# Altium integrated library Intersil Operational Amplifier.IntLib: 32 symbols
Pins are listed as number, name and electrical type; pins without a type are passive.

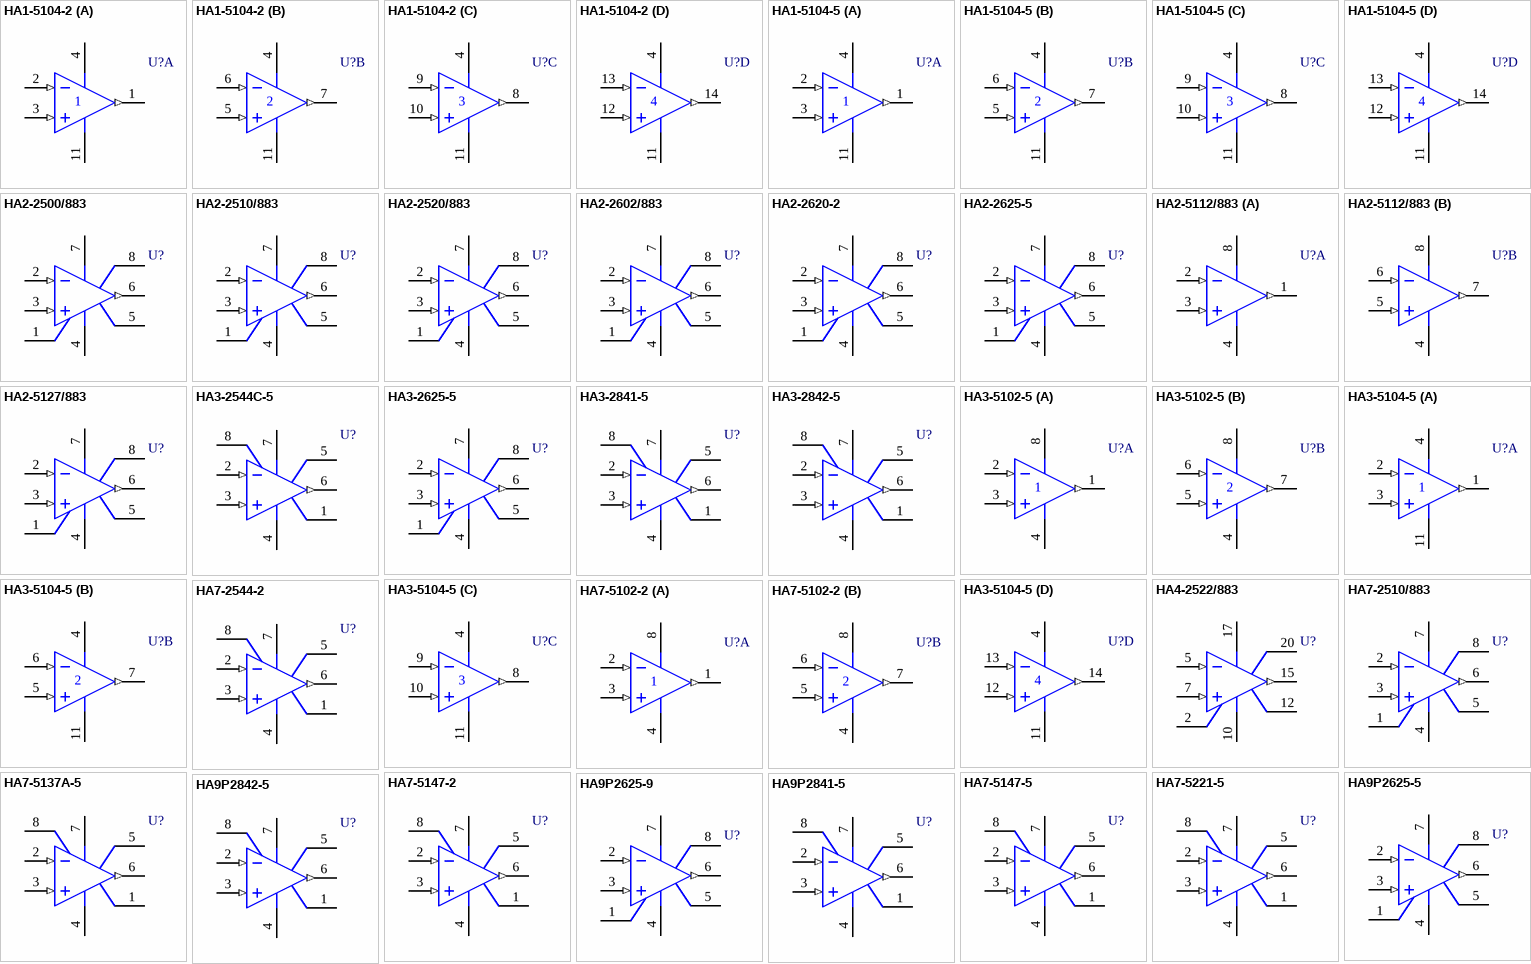
[diagram p0: symbols HA1-5104-2 to HA9P2842-5]

## HA1-5104-2
designator U?
Low Noise Operational Amplifier; Published: 23-Sep-2002; LatestRevisionDate: 29-May-2009; LatestRevisionNote: Component Body Added.; DatasheetVersion: May-2001; PackageVersion: rev0, Apr-1994; PackageReference: F14.3; Publisher: Altium Limited; PackageDescription: DIP, Ceramic, Frit Seal, 14-Pin, Row Spacing 7.62 mm, Pitch 2.54 mm; ComponentLink1Description: Manufacturer Link; ComponentLink1URL: http://www.intersil.com/cda/home/; ComponentLink2Description: Datasheet; ComponentLink2URL: http://www.intersil.com/data/fn/fn2925.pdf
footprint F14.3 (DIP, 14-Leads, Row Spacing 7.62mm, Pitch 2.54mm, Body 19.56x6.73mm)
3D model F14_3 (DIP, Ceramic, Frit Seal, 14-Pin, Row Spacing 7.62 mm, Pitch 2.54 mm)
simulation model HA5102 (SUBCKT)
pins on every part: 4 V+ (power), 11 V- (power)
part A pins: 1 OUT (out), 2 IN- (in), 3 IN+ (in)
part B pins: 5 IN+ (in), 6 IN- (in), 7 OUT (out)
part C pins: 8 OUT (out), 9 IN- (in), 10 IN+ (in)
part D pins: 12 IN+ (in), 13 IN- (in), 14 OUT (out)

## HA1-5104-5
designator U?
Low Noise Operational Amplifier; Published: 23-Sep-2002; LatestRevisionDate: 29-May-2009; LatestRevisionNote: Component Body Added.; DatasheetVersion: May-2001; PackageVersion: rev0, Apr-1994; PackageReference: F14.3; Publisher: Altium Limited; PackageDescription: DIP, Ceramic, Frit Seal, 14-Pin, Row Spacing 7.62 mm, Pitch 2.54 mm; ComponentLink1Description: Manufacturer Link; ComponentLink1URL: http://www.intersil.com/cda/home/; ComponentLink2Description: Datasheet; ComponentLink2URL: http://www.intersil.com/data/fn/fn2925.pdf
footprint F14.3 (DIP, 14-Leads, Row Spacing 7.62mm, Pitch 2.54mm, Body 19.56x6.73mm)
3D model F14_3 (DIP, Ceramic, Frit Seal, 14-Pin, Row Spacing 7.62 mm, Pitch 2.54 mm)
simulation model HA5102 (SUBCKT)
pins on every part: 4 V+ (power), 11 V- (power)
part A pins: 1 OUT (out), 2 IN- (in), 3 IN+ (in)
part B pins: 5 IN+ (in), 6 IN- (in), 7 OUT (out)
part C pins: 8 OUT (out), 9 IN- (in), 10 IN+ (in)
part D pins: 12 IN+ (in), 13 IN- (in), 14 OUT (out)

## HA2-2500/883
designator U?
Precision High Slew Rate Operational Amplifier; Published: 23-Sep-2002; DatasheetVersion: Apr-2002; PackageVersion: rev0, May-1994; PackageReference: T8.C; Publisher: Altium Limited; PackageDescription: Can; 8 Leads; Pin Circle Dia. 5.08 mm; Lead Dia. 0.53 mm (max); ComponentLink1Description: Manufacturer Link; ComponentLink1URL: http://www.intersil.com/cda/home/
footprint T8.C (Can; 8 Leads; Pin Circle Dia. 5.08 mm; Lead Dia. 0.53 mm (max))
simulation model HA2500 (SUBCKT)
pins: 1 BAL, 2 IN- (in), 3 IN+ (in), 4 V- (power), 5 BAL, 6 OUT (out), 7 V+ (power), 8 COMP

## HA2-2510/883
designator U?
High Slew Rate Operational Amplifier; Published: 23-Sep-2002; DatasheetVersion: Apr-2002; PackageVersion: rev0, May-1994; PackageReference: T8.C; Publisher: Altium Limited; PackageDescription: Can; 8 Leads; Pin Circle Dia. 5.08 mm; Lead Dia. 0.53 mm (max); ComponentLink1Description: Manufacturer Link; ComponentLink1URL: http://www.intersil.com/cda/home/; ComponentLink2Description: Datasheet; ComponentLink2URL: http://www.intersil.com/data/fn/fn3697.pdf
footprint T8.C (Can; 8 Leads; Pin Circle Dia. 5.08 mm; Lead Dia. 0.53 mm (max))
simulation model HA2510 (SUBCKT)
pins: 1 BAL, 2 IN- (in), 3 IN+ (in), 4 V- (power), 5 BAL, 6 OUT (out), 7 V+ (power), 8 COMP

## HA2-2520/883
designator U?
Uncompensated High Slew Rate Operational Amplifier; Published: 23-Sep-2002; DatasheetVersion: Mar-2002; PackageVersion: rev0, May-1994; PackageReference: T8.C; Publisher: Altium Limited; PackageDescription: Can; 8 Leads; Pin Circle Dia. 5.08 mm; Lead Dia. 0.53 mm (max); ComponentLink1Description: Manufacturer Link; ComponentLink1URL: http://www.intersil.com/cda/home/
footprint T8.C (Can; 8 Leads; Pin Circle Dia. 5.08 mm; Lead Dia. 0.53 mm (max))
simulation model HA2520 (SUBCKT)
pins: 1 BAL, 2 IN- (in), 3 IN+ (in), 4 V- (power), 5 BAL, 6 OUT (out), 7 V+ (power), 8 COMP

## HA2-2602/883
designator U?
Wideband, High Impedance Operational Amplifier; Published: 23-Sep-2002; DatasheetVersion: Apr-2002; PackageVersion: rev0, May-1994; PackageReference: T8.C; Publisher: Altium Limited; PackageDescription: Can; 8 Leads; Pin Circle Dia. 5.08 mm; Lead Dia. 0.53 mm (max); ComponentLink1Description: Manufacturer Link; ComponentLink1URL: http://www.intersil.com/cda/home/
footprint T8.C (Can; 8 Leads; Pin Circle Dia. 5.08 mm; Lead Dia. 0.53 mm (max))
simulation model HA2602 (SUBCKT)
pins: 1 BAL, 2 IN- (in), 3 IN+ (in), 4 V- (power), 5 BAL, 6 OUT (out), 7 V+ (power), 8 COMP

## HA2-2620-2
designator U?
100MHz, High Input Impedance, Very Wideband, Uncompensated Operational Amplifier; Published: 23-Sep-2002; LatestRevisionDate: 17-Sep-2003; LatestRevisionNote: Changed SIM name.; DatasheetVersion: Nov-1999; PackageVersion: rev0, May-1994; PackageReference: T8.C; Publisher: Altium Limited; PackageDescription: Can; 8 Leads; Pin Circle Dia. 5.08 mm; Lead Dia. 0.53 mm (max); ComponentLink1Description: Manufacturer Link; ComponentLink1URL: http://www.intersil.com/cda/home/; ComponentLink2Description: Datasheet; ComponentLink2URL: http://www.intersil.com/data/fn/fn2903.pdf
footprint T8.C (Can; 8 Leads; Pin Circle Dia. 5.08 mm; Lead Dia. 0.53 mm (max))
simulation model HA2620 (SUBCKT)
pins: 1 BAL, 2 IN- (in), 3 IN+ (in), 4 V- (power), 5 BAL, 6 OUT (out), 7 V+ (power), 8 COMP

## HA2-2625-5
designator U?
100MHz, High Input Impedance, Very Wideband, Uncompensated Operational Amplifier; Published: 23-Sep-2002; LatestRevisionDate: 17-Sep-2003; LatestRevisionNote: Changed SIM name.; DatasheetVersion: Nov-1999; PackageVersion: rev0, May-1994; PackageReference: T8.C; Publisher: Altium Limited; PackageDescription: Can; 8 Leads; Pin Circle Dia. 5.08 mm; Lead Dia. 0.53 mm (max); ComponentLink1Description: Manufacturer Link; ComponentLink1URL: http://www.intersil.com/cda/home/; ComponentLink2Description: Datasheet; ComponentLink2URL: http://www.intersil.com/data/fn/fn2903.pdf
footprint T8.C (Can; 8 Leads; Pin Circle Dia. 5.08 mm; Lead Dia. 0.53 mm (max))
simulation model HA2620 (SUBCKT)
pins: 1 BAL, 2 IN- (in), 3 IN+ (in), 4 V- (power), 5 BAL, 6 OUT (out), 7 V+ (power), 8 COMP

## HA2-5112/883
designator U?
Low Noise, High Performance Uncompensated Operational Amplifier; Published: 23-Sep-2002; DatasheetVersion: Apr-2002; PackageVersion: rev0, May-1994; PackageReference: T8.C; Publisher: Altium Limited; PackageDescription: Can; 8 Leads; Pin Circle Dia. 5.08 mm; Lead Dia. 0.53 mm (max); ComponentLink1Description: Manufacturer Link; ComponentLink1URL: http://www.intersil.com/cda/home/
footprint T8.C (Can; 8 Leads; Pin Circle Dia. 5.08 mm; Lead Dia. 0.53 mm (max))
simulation model HA5112 (SUBCKT)
pins on every part: 4 V- (power), 8 V+ (power)
part A pins: 1 OUT (out), 2 IN- (in), 3 IN+ (in)
part B pins: 5 IN+ (in), 6 IN- (in), 7 OUT (out)

## HA2-5127/883
designator U?
Ultra-Low Noise Precision Wideband Operational Amplifier; ComponentAvailability: Obsolete; Published: 23-Sep-2002; DatasheetVersion: Aug-2001; PackageVersion: rev0, May-1994; PackageReference: T8.C; Publisher: Altium Limited; PackageDescription: Can; 8 Leads; Pin Circle Dia. 5.08 mm; Lead Dia. 0.53 mm (max); ComponentLink1Description: Manufacturer Link; ComponentLink1URL: http://www.intersil.com/cda/home/; ComponentLink2Description: Datasheet; ComponentLink2URL: http://www.intersil.com/data/fn/fn3751.pdf
footprint T8.C (Can; 8 Leads; Pin Circle Dia. 5.08 mm; Lead Dia. 0.53 mm (max))
simulation model HA5127 (SUBCKT)
pins: 1 BAL, 2 IN- (in), 3 IN+ (in), 4 V- (power), 5 NC, 6 OUT (out), 7 V+ (power), 8 BAL

## HA3-2544C-5
designator U?
Video Operational Amplifier; Published: 23-Sep-2002; LatestRevisionDate: 29-May-2009; LatestRevisionNote: Component Body Added.; DatasheetVersion: Apr-1999; PackageVersion: rev0, Dec-1993; PackageReference: E8.3; Publisher: Altium Limited; PackageDescription: DIP, Plastic, 8-Pin, Row Spacing 7.62 mm, Pitch 2.54 mm; Code_JEDEC: MS-001-BA; ComponentLink1Description: Manufacturer Link; ComponentLink1URL: http://www.intersil.com/cda/home/; ComponentLink2Description: Datasheet; ComponentLink2URL: http://www.intersil.com/data/fn/fn2900.pdf
footprint E8.3 (DIP, 8-Leads, Row Spacing 7.62mm, Pitch 2.54mm, Body 9.59x6.6mm)
3D model E8_3 (DIP, Plastic, 8-Pin, Row Spacing 7.62 mm, Pitch 2.54 mm)
simulation model HA2544 (SUBCKT)
pins: 1 BAL, 2 IN- (in), 3 IN+ (in), 4 V- (power), 5 BAL, 6 OUT (out), 7 V+ (power), 8 NC

## HA3-2625-5
designator U?
100MHz, High Input Impedance, Very Wideband, Uncompensated Operational Amplifier; Published: 23-Sep-2002; LatestRevisionDate: 29-May-2009; LatestRevisionNote: Component Body Added.; DatasheetVersion: Nov-1999; PackageVersion: rev0, Dec-1993; PackageReference: E8.3; Publisher: Altium Limited; PackageDescription: DIP, Plastic, 8-Pin, Row Spacing 7.62 mm, Pitch 2.54 mm; Code_JEDEC: MS-001-BA; ComponentLink1Description: Manufacturer Link; ComponentLink1URL: http://www.intersil.com/cda/home/; ComponentLink2Description: Datasheet; ComponentLink2URL: http://www.intersil.com/data/fn/fn2903.pdf
footprint E8.3 (DIP, 8-Leads, Row Spacing 7.62mm, Pitch 2.54mm, Body 9.59x6.6mm)
3D model E8_3 (DIP, Plastic, 8-Pin, Row Spacing 7.62 mm, Pitch 2.54 mm)
simulation model HA2620 (SUBCKT)
pins: 1 BAL, 2 IN- (in), 3 IN+ (in), 4 V- (power), 5 BAL, 6 OUT (out), 7 V+ (power), 8 COMP

## HA3-2841-5
designator U?
Wideband, Fast Settling, Unity Gain Stable, Video Operational Amplifier; Published: 23-Sep-2002; LatestRevisionDate: 29-May-2009; LatestRevisionNote: Component Body Added.; DatasheetVersion: Sep-1998; PackageVersion: rev0, Dec-1993; PackageReference: E8.3; Publisher: Altium Limited; PackageDescription: DIP, Plastic, 8-Pin, Row Spacing 7.62 mm, Pitch 2.54 mm; Code_JEDEC: MS-001-BA; ComponentLink1Description: Manufacturer Link; ComponentLink1URL: http://www.intersil.com/cda/home/
footprint E8.3 (DIP, 8-Leads, Row Spacing 7.62mm, Pitch 2.54mm, Body 9.59x6.6mm)
3D model E8_3 (DIP, Plastic, 8-Pin, Row Spacing 7.62 mm, Pitch 2.54 mm)
simulation model HA2841 (SUBCKT)
pins: 1 BAL, 2 IN- (in), 3 IN+ (in), 4 V- (power), 5 NC, 6 OUT (out), 7 V+ (power), 8 BAL

## HA3-2842-5
designator U?
Wideband, High Slew Rate, High Output Current, Video Operational Amplifier; Published: 23-Sep-2002; LatestRevisionDate: 29-May-2009; LatestRevisionNote: Component Body Added.; DatasheetVersion: Sep-1998; PackageVersion: rev0, Dec-1993; PackageReference: E8.3; Publisher: Altium Limited; PackageDescription: DIP, Plastic, 8-Pin, Row Spacing 7.62 mm, Pitch 2.54 mm; Code_JEDEC: MS-001-BA; ComponentLink1Description: Manufacturer Link; ComponentLink1URL: http://www.intersil.com/cda/home/
footprint E8.3 (DIP, 8-Leads, Row Spacing 7.62mm, Pitch 2.54mm, Body 9.59x6.6mm)
3D model E8_3 (DIP, Plastic, 8-Pin, Row Spacing 7.62 mm, Pitch 2.54 mm)
simulation model HA2842 (SUBCKT)
pins: 1 BAL, 2 IN- (in), 3 IN+ (in), 4 V- (power), 5 NC, 6 OUT (out), 7 V+ (power), 8 BAL

## HA3-5102-5
designator U?
Low Noise Operational Amplifier; Published: 23-Sep-2002; LatestRevisionDate: 29-May-2009; LatestRevisionNote: Component Body Added.; DatasheetVersion: May-2001; PackageVersion: rev0, Dec-1993; PackageReference: E8.3; Publisher: Altium Limited; PackageDescription: DIP, Plastic, 8-Pin, Row Spacing 7.62 mm, Pitch 2.54 mm; Code_JEDEC: MS-001-BA; ComponentLink1Description: Manufacturer Link; ComponentLink1URL: http://www.intersil.com/cda/home/; ComponentLink2Description: Datasheet; ComponentLink2URL: http://www.intersil.com/data/fn/fn2925.pdf
footprint E8.3 (DIP, 8-Leads, Row Spacing 7.62mm, Pitch 2.54mm, Body 9.59x6.6mm)
3D model E8_3 (DIP, Plastic, 8-Pin, Row Spacing 7.62 mm, Pitch 2.54 mm)
simulation model HA5102 (SUBCKT)
pins on every part: 4 V- (power), 8 V+ (power)
part A pins: 1 OUT (out), 2 IN- (in), 3 IN+ (in)
part B pins: 5 IN+ (in), 6 IN- (in), 7 OUT (out)

## HA3-5104-5
designator U?
Low Noise Operational Amplifier; Published: 23-Sep-2002; LatestRevisionDate: 29-May-2009; LatestRevisionNote: Component Body Added.; DatasheetVersion: May-2001; PackageVersion: rev0, Dec-1993; PackageReference: E14.3; Publisher: Altium Limited; PackageDescription: DIP, Plastic, 14-Pin, Row Spacing 7.62 mm, Pitch 2.54 mm; Code_JEDEC: MS-001-AA; ComponentLink1Description: Manufacturer Link; ComponentLink1URL: http://www.intersil.com/cda/home/; ComponentLink2Description: Datasheet; ComponentLink2URL: http://www.intersil.com/data/fn/fn2925.pdf
footprint E14.3 (DIP, 14-Leads, Row Spacing 7.62mm, Pitch 2.54mm, Body 19.18x6.6mm)
3D model E14_3 (DIP, Plastic, 14-Pin, Row Spacing 7.62 mm, Pitch 2.54 mm)
simulation model HA5102 (SUBCKT)
pins on every part: 4 V+ (power), 11 V- (power)
part A pins: 1 OUT (out), 2 IN- (in), 3 IN+ (in)
part B pins: 5 IN+ (in), 6 IN- (in), 7 OUT (out)
part C pins: 8 OUT (out), 9 IN- (in), 10 IN+ (in)
part D pins: 12 IN+ (in), 13 IN- (in), 14 OUT (out)

## HA4-2522/883
designator U?
Uncompensated High Slew Rate Operational Amplifier; Note: Pins 1, 3, 4, 6, 8, 9, 11, 13, 14, 16, 18 and 19 are NC and are not drawn; Published: 23-Sep-2002; DatasheetVersion: Mar-2002; PackageVersion: rev0, May-1994; PackageReference: J20.A; Publisher: Altium Limited; PackageDescription: Ceramic Leadless Chip Carrier; 20 Terminals; Body 8.9 x 8.9 mm; ComponentLink1Description: Manufacturer Link; ComponentLink1URL: http://www.intersil.com/cda/home/
footprint J20.A (Ceramic Leadless Chip Carrier; 20 Terminals; Body 8.9 x 8.9 mm)
footprint J20.A_N (Leadless Chip Carrier, 20-Leads, Body 8.9x8.9mm, Pitch 1.27mm, IPC Medium Density)
footprint J20.A_L (Leadless Chip Carrier, 20-Leads, Body 8.9x8.9mm, Pitch 1.27mm, IPC High Density)
footprint J20.A_M (Leadless Chip Carrier, 20-Leads, Body 8.9x8.9mm, Pitch 1.27mm, IPC Low Density)
simulation model HA2522 (SUBCKT)
pins: 2 BAL, 5 IN- (in), 7 IN+ (in), 10 V- (power), 12 BAL, 15 OUT (out), 17 V+ (power), 20 COMP

## HA7-2510/883
designator U?
High Slew Rate Operational Amplifier; Published: 23-Sep-2002; LatestRevisionDate: 29-May-2009; LatestRevisionNote: Component Body Added.; DatasheetVersion: Apr-2002; PackageVersion: rev0, Apr-1994; PackageReference: F8.3A; Publisher: Altium Limited; PackageDescription: DIP, Ceramic Frit Seal, 8-Pin, Row Spacing 7.62 mm, Pitch 2.54 mm; ComponentLink1Description: Manufacturer Link; ComponentLink1URL: http://www.intersil.com/cda/home/; ComponentLink2Description: Datasheet; ComponentLink2URL: http://www.intersil.com/data/fn/fn3697.pdf
footprint F8.3A (DIP, 8-Leads, Row Spacing 7.62mm, Pitch 2.54mm, Body 9.89x6.73mm)
3D model F8_3A (DIP, Ceramic Frit Seal, 8-Pin, Row Spacing 7.62 mm, Pitch 2.54 mm)
simulation model HA2510 (SUBCKT)
pins: 1 BAL, 2 IN- (in), 3 IN+ (in), 4 V- (power), 5 BAL, 6 OUT (out), 7 V+ (power), 8 COMP

## HA7-2544-2
designator U?
Video Operational Amplifier; Published: 23-Sep-2002; LatestRevisionDate: 29-May-2009; LatestRevisionNote: Component Body Added.; DatasheetVersion: Apr-1999; PackageVersion: rev0, Apr-1994; PackageReference: F8.3A; Publisher: Altium Limited; PackageDescription: DIP, Ceramic Frit Seal, 8-Pin, Row Spacing 7.62 mm, Pitch 2.54 mm; ComponentLink1Description: Manufacturer Link; ComponentLink1URL: http://www.intersil.com/cda/home/; ComponentLink2Description: Datasheet; ComponentLink2URL: http://www.intersil.com/data/fn/fn2900.pdf
footprint F8.3A (DIP, 8-Leads, Row Spacing 7.62mm, Pitch 2.54mm, Body 9.89x6.73mm)
3D model F8_3A (DIP, Ceramic Frit Seal, 8-Pin, Row Spacing 7.62 mm, Pitch 2.54 mm)
simulation model HA2544 (SUBCKT)
pins: 1 BAL, 2 IN- (in), 3 IN+ (in), 4 V- (power), 5 BAL, 6 OUT (out), 7 V+ (power), 8 NC

## HA7-5102-2
designator U?
Low Noise Operational Amplifier; Published: 23-Sep-2002; LatestRevisionDate: 29-May-2009; LatestRevisionNote: Component Body Added.; DatasheetVersion: May-2001; PackageVersion: rev0, Apr-1994; PackageReference: F8.3A; Publisher: Altium Limited; PackageDescription: DIP, Ceramic Frit Seal, 8-Pin, Row Spacing 7.62 mm, Pitch 2.54 mm; ComponentLink1Description: Manufacturer Link; ComponentLink1URL: http://www.intersil.com/cda/home/; ComponentLink2Description: Datasheet; ComponentLink2URL: http://www.intersil.com/data/fn/fn2925.pdf
footprint F8.3A (DIP, 8-Leads, Row Spacing 7.62mm, Pitch 2.54mm, Body 9.89x6.73mm)
3D model F8_3A (DIP, Ceramic Frit Seal, 8-Pin, Row Spacing 7.62 mm, Pitch 2.54 mm)
simulation model HA5102 (SUBCKT)
pins on every part: 4 V- (power), 8 V+ (power)
part A pins: 1 OUT (out), 2 IN- (in), 3 IN+ (in)
part B pins: 5 IN+ (in), 6 IN- (in), 7 OUT (out)

## HA7-5137A-5
designator U?
Ultra-Low Noise Precision Wideband Operational Amplifier; Published: 23-Sep-2002; LatestRevisionDate: 29-May-2009; LatestRevisionNote: Component Body Added.; DatasheetVersion: Apr-2000; PackageVersion: rev0, Apr-1994; PackageReference: F8.3A; Publisher: Altium Limited; PackageDescription: DIP, Ceramic Frit Seal, 8-Pin, Row Spacing 7.62 mm, Pitch 2.54 mm; ComponentLink1Description: Manufacturer Link; ComponentLink1URL: http://www.intersil.com/cda/home/; ComponentLink2Description: Datasheet; ComponentLink2URL: http://www.intersil.com/data/fn/fn2908.pdf
footprint F8.3A (DIP, 8-Leads, Row Spacing 7.62mm, Pitch 2.54mm, Body 9.89x6.73mm)
3D model F8_3A (DIP, Ceramic Frit Seal, 8-Pin, Row Spacing 7.62 mm, Pitch 2.54 mm)
simulation model HA5137 (SUBCKT)
pins: 1 BAL, 2 IN- (in), 3 IN+ (in), 4 V- (power), 5 NC, 6 OUT (out), 7 V+ (power), 8 BAL

## HA7-5147-2
designator U?
Ultra-Low Noise Precision High Slew Rate Wideband Operational Amplifier; Published: 23-Sep-2002; LatestRevisionDate: 29-May-2009; LatestRevisionNote: Component Body Added.; DatasheetVersion: Sep-2000; PackageVersion: rev0, Apr-1994; PackageReference: F8.3A; Publisher: Altium Limited; PackageDescription: DIP, Ceramic Frit Seal, 8-Pin, Row Spacing 7.62 mm, Pitch 2.54 mm; ComponentLink1Description: Manufacturer Link; ComponentLink1URL: http://www.intersil.com/cda/home/; ComponentLink2Description: Datasheet; ComponentLink2URL: http://www.intersil.com/data/fn/fn2910.pdf
footprint F8.3A (DIP, 8-Leads, Row Spacing 7.62mm, Pitch 2.54mm, Body 9.89x6.73mm)
3D model F8_3A (DIP, Ceramic Frit Seal, 8-Pin, Row Spacing 7.62 mm, Pitch 2.54 mm)
simulation model HA5147 (SUBCKT)
pins: 1 BAL, 2 IN- (in), 3 IN+ (in), 4 V- (power), 5 NC, 6 OUT (out), 7 V+ (power), 8 BAL

## HA7-5147-5
designator U?
Ultra-Low Noise Precision High Slew Rate Wideband Operational Amplifier; Published: 23-Sep-2002; LatestRevisionDate: 29-May-2009; LatestRevisionNote: Component Body Added.; DatasheetVersion: Sep-2000; PackageVersion: rev0, Apr-1994; PackageReference: F8.3A; Publisher: Altium Limited; PackageDescription: DIP, Ceramic Frit Seal, 8-Pin, Row Spacing 7.62 mm, Pitch 2.54 mm; ComponentLink1Description: Manufacturer Link; ComponentLink1URL: http://www.intersil.com/cda/home/; ComponentLink2Description: Datasheet; ComponentLink2URL: http://www.intersil.com/data/fn/fn2910.pdf
footprint F8.3A (DIP, 8-Leads, Row Spacing 7.62mm, Pitch 2.54mm, Body 9.89x6.73mm)
3D model F8_3A (DIP, Ceramic Frit Seal, 8-Pin, Row Spacing 7.62 mm, Pitch 2.54 mm)
simulation model HA5147 (SUBCKT)
pins: 1 BAL, 2 IN- (in), 3 IN+ (in), 4 V- (power), 5 NC, 6 OUT (out), 7 V+ (power), 8 BAL

## HA7-5221-5
designator U?
Low Noise, Wideband Precision Operational Amplifier; Published: 23-Sep-2002; LatestRevisionDate: 29-May-2009; LatestRevisionNote: Component Body Added.; DatasheetVersion: May-2002; PackageVersion: rev0, Apr-1994; PackageReference: F8.3A; Publisher: Altium Limited; PackageDescription: DIP, Ceramic Frit Seal, 8-Pin, Row Spacing 7.62 mm, Pitch 2.54 mm; ComponentLink1Description: Manufacturer Link; ComponentLink1URL: http://www.intersil.com/cda/home/
footprint F8.3A (DIP, 8-Leads, Row Spacing 7.62mm, Pitch 2.54mm, Body 9.89x6.73mm)
3D model F8_3A (DIP, Ceramic Frit Seal, 8-Pin, Row Spacing 7.62 mm, Pitch 2.54 mm)
simulation model HA5221 (SUBCKT)
pins: 1 BAL-, 2 IN- (in), 3 IN+ (in), 4 V- (power), 5 NC, 6 OUT (out), 7 V+ (power), 8 BAL+

## HA9P2625-5
designator U?
100MHz, High Input Impedance, Very Wideband, Uncompensated Operational Amplifier; Published: 23-Sep-2002; LatestRevisionDate: 13-Apr-2006; LatestRevisionNote: IPC-7351 Footprint Added.; DatasheetVersion: Nov-1999; PackageVersion: rev0, Dec-1993; PackageReference: M8.15; Publisher: Altium Limited; PackageDescription: 8-Pin Plastic Small Outline Integrated Circuit 1.27 mm Pitch; Code_JEDEC: MS-012-AA; Code_IPC: SOIC127P600-8; ComponentLink1Description: Manufacturer Link; ComponentLink1URL: http://www.intersil.com/cda/home/; ComponentLink2Description: Datasheet; ComponentLink2URL: http://www.intersil.com/data/fn/fn2903.pdf
footprint M8.15_N (SOIC, 8-Leads, Body 4.9x3.9mm, Pitch 1.27mm, IPC Medium Density)
footprint M8.15_L (SOIC, 8-Leads, Body 4.9x3.9mm, Pitch 1.27mm, IPC High Density)
footprint M8.15_M (SOIC, 8-Leads, Body 4.9x3.9mm, Pitch 1.27mm, IPC Low Density)
3D model M8_15 (8-Pin Plastic Small Outline Integrated Circuit 1.27 mm Pitch)
simulation model HA2620 (SUBCKT)
pins: 1 BAL, 2 IN- (in), 3 IN+ (in), 4 V- (power), 5 BAL, 6 OUT (out), 7 V+ (power), 8 COMP

## HA9P2625-9
designator U?
100MHz, High Input Impedance, Very Wideband, Uncompensated Operational Amplifier; Published: 23-Sep-2002; LatestRevisionDate: 13-Apr-2006; LatestRevisionNote: IPC-7351 Footprint Added.; DatasheetVersion: Nov-1999; PackageVersion: rev0, Dec-1993; PackageReference: M8.15; Publisher: Altium Limited; PackageDescription: 8-Pin Plastic Small Outline Integrated Circuit 1.27 mm Pitch; Code_JEDEC: MS-012-AA; Code_IPC: SOIC127P600-8; ComponentLink1Description: Manufacturer Link; ComponentLink1URL: http://www.intersil.com/cda/home/; ComponentLink2Description: Datasheet; ComponentLink2URL: http://www.intersil.com/data/fn/fn2903.pdf
footprint M8.15_N (SOIC, 8-Leads, Body 4.9x3.9mm, Pitch 1.27mm, IPC Medium Density)
footprint M8.15_L (SOIC, 8-Leads, Body 4.9x3.9mm, Pitch 1.27mm, IPC High Density)
footprint M8.15_M (SOIC, 8-Leads, Body 4.9x3.9mm, Pitch 1.27mm, IPC Low Density)
3D model M8_15 (8-Pin Plastic Small Outline Integrated Circuit 1.27 mm Pitch)
simulation model HA2620 (SUBCKT)
pins: 1 BAL, 2 IN- (in), 3 IN+ (in), 4 V- (power), 5 BAL, 6 OUT (out), 7 V+ (power), 8 COMP

## HA9P2841-5
designator U?
Wideband, Fast Settling, Unity Gain Stable, Video Operational Amplifier; Published: 23-Sep-2002; LatestRevisionDate: 13-Apr-2006; LatestRevisionNote: IPC-7351 Footprint Added.; DatasheetVersion: Sep-1998; PackageVersion: rev0, Dec-1993; PackageReference: M8.15; Publisher: Altium Limited; PackageDescription: 8-Pin Plastic Small Outline Integrated Circuit 1.27 mm Pitch; Code_JEDEC: MS-012-AA; Code_IPC: SOIC127P600-8; ComponentLink1Description: Manufacturer Link; ComponentLink1URL: http://www.intersil.com/cda/home/
footprint M8.15_N (SOIC, 8-Leads, Body 4.9x3.9mm, Pitch 1.27mm, IPC Medium Density)
footprint M8.15_L (SOIC, 8-Leads, Body 4.9x3.9mm, Pitch 1.27mm, IPC High Density)
footprint M8.15_M (SOIC, 8-Leads, Body 4.9x3.9mm, Pitch 1.27mm, IPC Low Density)
3D model M8_15 (8-Pin Plastic Small Outline Integrated Circuit 1.27 mm Pitch)
simulation model HA2841 (SUBCKT)
pins: 1 BAL, 2 IN- (in), 3 IN+ (in), 4 V- (power), 5 NC, 6 OUT (out), 7 V+ (power), 8 BAL

## HA9P2842-5
designator U?
Wideband, High Slew Rate, High Output Current, Video Operational Amplifier; Published: 23-Sep-2002; LatestRevisionDate: 13-Apr-2006; LatestRevisionNote: IPC-7351 Footprint Added.; DatasheetVersion: Sep-1998; PackageVersion: rev0, Dec-1993; PackageReference: M8.15; Publisher: Altium Limited; PackageDescription: 8-Pin Plastic Small Outline Integrated Circuit 1.27 mm Pitch; Code_JEDEC: MS-012-AA; Code_IPC: SOIC127P600-8; ComponentLink1Description: Manufacturer Link; ComponentLink1URL: http://www.intersil.com/cda/home/
footprint M8.15_N (SOIC, 8-Leads, Body 4.9x3.9mm, Pitch 1.27mm, IPC Medium Density)
footprint M8.15_L (SOIC, 8-Leads, Body 4.9x3.9mm, Pitch 1.27mm, IPC High Density)
footprint M8.15_M (SOIC, 8-Leads, Body 4.9x3.9mm, Pitch 1.27mm, IPC Low Density)
3D model M8_15 (8-Pin Plastic Small Outline Integrated Circuit 1.27 mm Pitch)
simulation model HA2842 (SUBCKT)
pins: 1 BAL, 2 IN- (in), 3 IN+ (in), 4 V- (power), 5 NC, 6 OUT (out), 7 V+ (power), 8 BAL

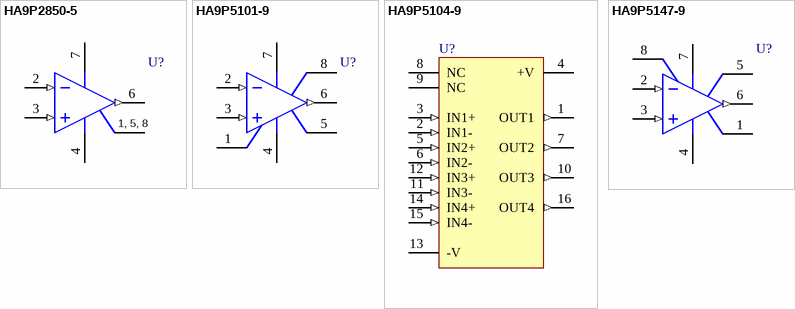
[diagram p1: symbols HA9P2850-5 to HA9P5147-9]

## HA9P2850-5
designator U?
Low Power, High Slew Rate Wideband Operational Amplifier; Published: 23-Sep-2002; LatestRevisionDate: 13-Apr-2006; LatestRevisionNote: IPC-7351 Footprint Added.; DatasheetVersion: Sep-1998; PackageVersion: rev0, Dec-1993; PackageReference: M8.15; Publisher: Altium Limited; PackageDescription: 8-Pin Plastic Small Outline Integrated Circuit 1.27 mm Pitch; Code_JEDEC: MS-012-AA; Code_IPC: SOIC127P600-8; ComponentLink1Description: Manufacturer Link; ComponentLink1URL: http://www.intersil.com/cda/home/
footprint M8.15_N (SOIC, 8-Leads, Body 4.9x3.9mm, Pitch 1.27mm, IPC Medium Density)
footprint M8.15_L (SOIC, 8-Leads, Body 4.9x3.9mm, Pitch 1.27mm, IPC High Density)
footprint M8.15_M (SOIC, 8-Leads, Body 4.9x3.9mm, Pitch 1.27mm, IPC Low Density)
3D model M8_15 (8-Pin Plastic Small Outline Integrated Circuit 1.27 mm Pitch)
simulation model HA2850 (SUBCKT)
pins: 1 NC, 2 IN- (in), 3 IN+ (in), 4 V- (power), 5 NC, 6 OUT (out), 7 V+ (power), 8 NC
text: 1, 5, 8

## HA9P5101-9
designator U?
Low Noise Operational Amplifier; Published: 23-Sep-2002; LatestRevisionDate: 13-Apr-2006; LatestRevisionNote: IPC-7351 Footprint Added.; DatasheetVersion: Apr-2002; PackageVersion: rev0, Dec-1993; PackageReference: M8.15; Publisher: Altium Limited; PackageDescription: 8-Pin Plastic Small Outline Integrated Circuit 1.27 mm Pitch; Code_JEDEC: MS-012-AA; Code_IPC: SOIC127P600-8; ComponentLink1Description: Manufacturer Link; ComponentLink1URL: http://www.intersil.com/cda/home/
footprint M8.15_N (SOIC, 8-Leads, Body 4.9x3.9mm, Pitch 1.27mm, IPC Medium Density)
footprint M8.15_L (SOIC, 8-Leads, Body 4.9x3.9mm, Pitch 1.27mm, IPC High Density)
footprint M8.15_M (SOIC, 8-Leads, Body 4.9x3.9mm, Pitch 1.27mm, IPC Low Density)
3D model M8_15 (8-Pin Plastic Small Outline Integrated Circuit 1.27 mm Pitch)
simulation model HA5101 (SUBCKT)
pins: 1 BAL, 2 IN- (in), 3 IN+ (in), 4 V- (power), 5 BAL, 6 OUT (out), 7 V+ (power), 8 COMP

## HA9P5104-9
designator U?
Low Noise Operational Amplifier; Published: 23-Sep-2002; LatestRevisionDate: 13-Apr-2006; LatestRevisionNote: IPC-7351 Footprint Added.; DatasheetVersion: May-2001; PackageVersion: Dec-1993; PackageReference: M16.3; Publisher: Altium Limited; PackageDescription: 16-Pin Plastic Small Outline Integrated Circuit 1.27 mm Pitch; Code_JEDEC: MS-013-AA; Code_IPC: SOIC127P1030-16; ComponentLink1Description: Manufacturer Link; ComponentLink1URL: http://www.intersil.com/cda/home/; ComponentLink2Description: Datasheet; ComponentLink2URL: http://www.intersil.com/data/fn/fn2925.pdf
footprint M16.3_N (SOIC, 16-Leads, Body 10.3x7.5mm, Pitch 1.27mm, IPC Medium Density)
footprint M16.3_L (SOIC, 16-Leads, Body 10.3x7.5mm, Pitch 1.27mm, IPC High Density)
footprint M16.3_M (SOIC, 16-Leads, Body 10.3x7.5mm, Pitch 1.27mm, IPC Low Density)
3D model M16_3 (16-Pin Plastic Small Outline Integrated Circuit 1.27 mm Pitch)
simulation model HA5102 (SUBCKT)
pins: 1 OUT1 (out), 2 IN1- (in), 3 IN1+ (in), 4 +V (power), 5 IN2+ (in), 6 IN2- (in), 7 OUT2 (out), 8 NC, 9 NC, 10 OUT3 (out), 11 IN3- (in), 12 IN3+ (in), 13 -V (power), 14 IN4+ (in), 15 IN4- (in), 16 OUT4 (out)

## HA9P5147-9
designator U?
Ultra-Low Noise Precision High Slew Rate Wideband Operational Amplifier; Published: 23-Sep-2002; LatestRevisionDate: 13-Apr-2006; LatestRevisionNote: IPC-7351 Footprint Added.; DatasheetVersion: Sep-2000; PackageVersion: rev0, Dec-1993; PackageReference: M8.15; Publisher: Altium Limited; PackageDescription: 8-Pin Plastic Small Outline Integrated Circuit 1.27 mm Pitch; Code_JEDEC: MS-012-AA; Code_IPC: SOIC127P600-8; ComponentLink1Description: Manufacturer Link; ComponentLink1URL: http://www.intersil.com/cda/home/; ComponentLink2Description: Datasheet; ComponentLink2URL: http://www.intersil.com/data/fn/fn2910.pdf
footprint M8.15_N (SOIC, 8-Leads, Body 4.9x3.9mm, Pitch 1.27mm, IPC Medium Density)
footprint M8.15_L (SOIC, 8-Leads, Body 4.9x3.9mm, Pitch 1.27mm, IPC High Density)
footprint M8.15_M (SOIC, 8-Leads, Body 4.9x3.9mm, Pitch 1.27mm, IPC Low Density)
3D model M8_15 (8-Pin Plastic Small Outline Integrated Circuit 1.27 mm Pitch)
simulation model HA5147 (SUBCKT)
pins: 1 BAL, 2 IN- (in), 3 IN+ (in), 4 V- (power), 5 NC, 6 OUT (out), 7 V+ (power), 8 BAL